# EAGLE library part UPD765 (library 8Bit_Parts)
µPD765 MFM Disk Controller
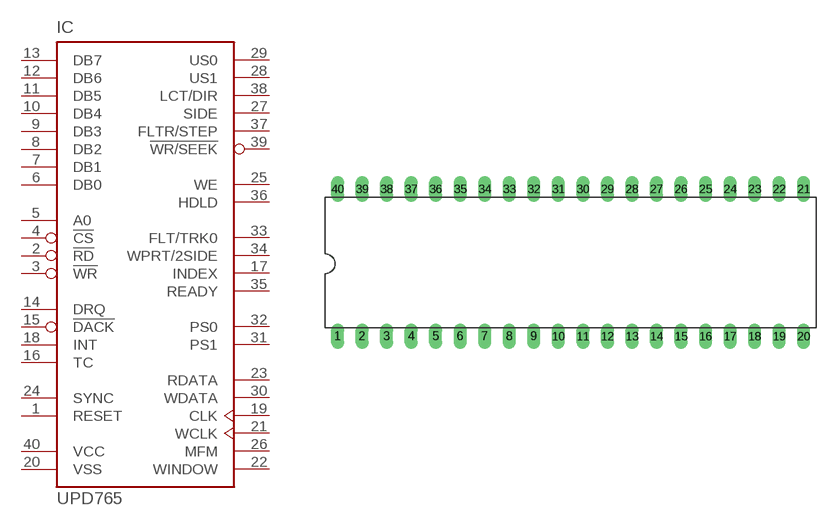
[diagram p10: symbol with the pads of DIL40; footprint DIL40]

Designator prefix IC

## UPD765  [DIL40]
1  RESET  in
2  !RD  in
3  !WR  in
4  !CS  in
5  A0  in
6  DB0
7  DB1
8  DB2
9  DB3
10  DB4
11  DB5
12  DB6
13  DB7
14  DRQ  out
15  !DACK  in
16  TC  in
17  INDEX  in
18  INT  out
19  CLK  in
20  VSS  pwr
21  WCLK  in
22  WINDOW  in
23  RDATA  in
24  SYNC  out
25  WE  out
26  MFM  out
27  SIDE  out
28  US1  out
29  US0  out
30  WDATA  out
31  PS1  out
32  PS0  out
33  FLT/TRK0  in
34  WPRT/2SIDE  in
35  READY  in
36  HDLD  out
37  FLTR/STEP  out
38  LCT/DIR  out
39  !WR/SEEK  out
40  VCC  pwr

## Footprint DIL40 (pad centres in mm)
Dual In Line Package
drill 0.813 long: 1 -24.13,-7.62; 2 -21.59,-7.62; 3 -19.05,-7.62; 4 -16.51,-7.62; 5 -13.97,-7.62; 6 -11.43,-7.62; 7 -8.89,-7.62; 8 -6.35,-7.62; 9 -3.81,-7.62; 10 -1.27,-7.62; 11 1.27,-7.62; 12 3.81,-7.62; 13 6.35,-7.62; 14 8.89,-7.62; 15 11.43,-7.62; 16 13.97,-7.62; 17 16.51,-7.62; 18 19.05,-7.62; 19 21.59,-7.62; 20 24.13,-7.62; 21 24.13,7.62; 22 21.59,7.62; 23 19.05,7.62; 24 16.51,7.62; 25 13.97,7.62; 26 11.43,7.62; 27 8.89,7.62; 28 6.35,7.62; 29 3.81,7.62; 30 1.27,7.62; 31 -1.27,7.62; 32 -3.81,7.62; 33 -6.35,7.62; 34 -8.89,7.62; 35 -11.43,7.62; 36 -13.97,7.62; 37 -16.51,7.62; 38 -19.05,7.62; 39 -21.59,7.62; 40 -24.13,7.62